# Altium integrated library lib_analog.IntLib: 24 symbols
Pins are listed as number, name and electrical type; pins without a type are passive.

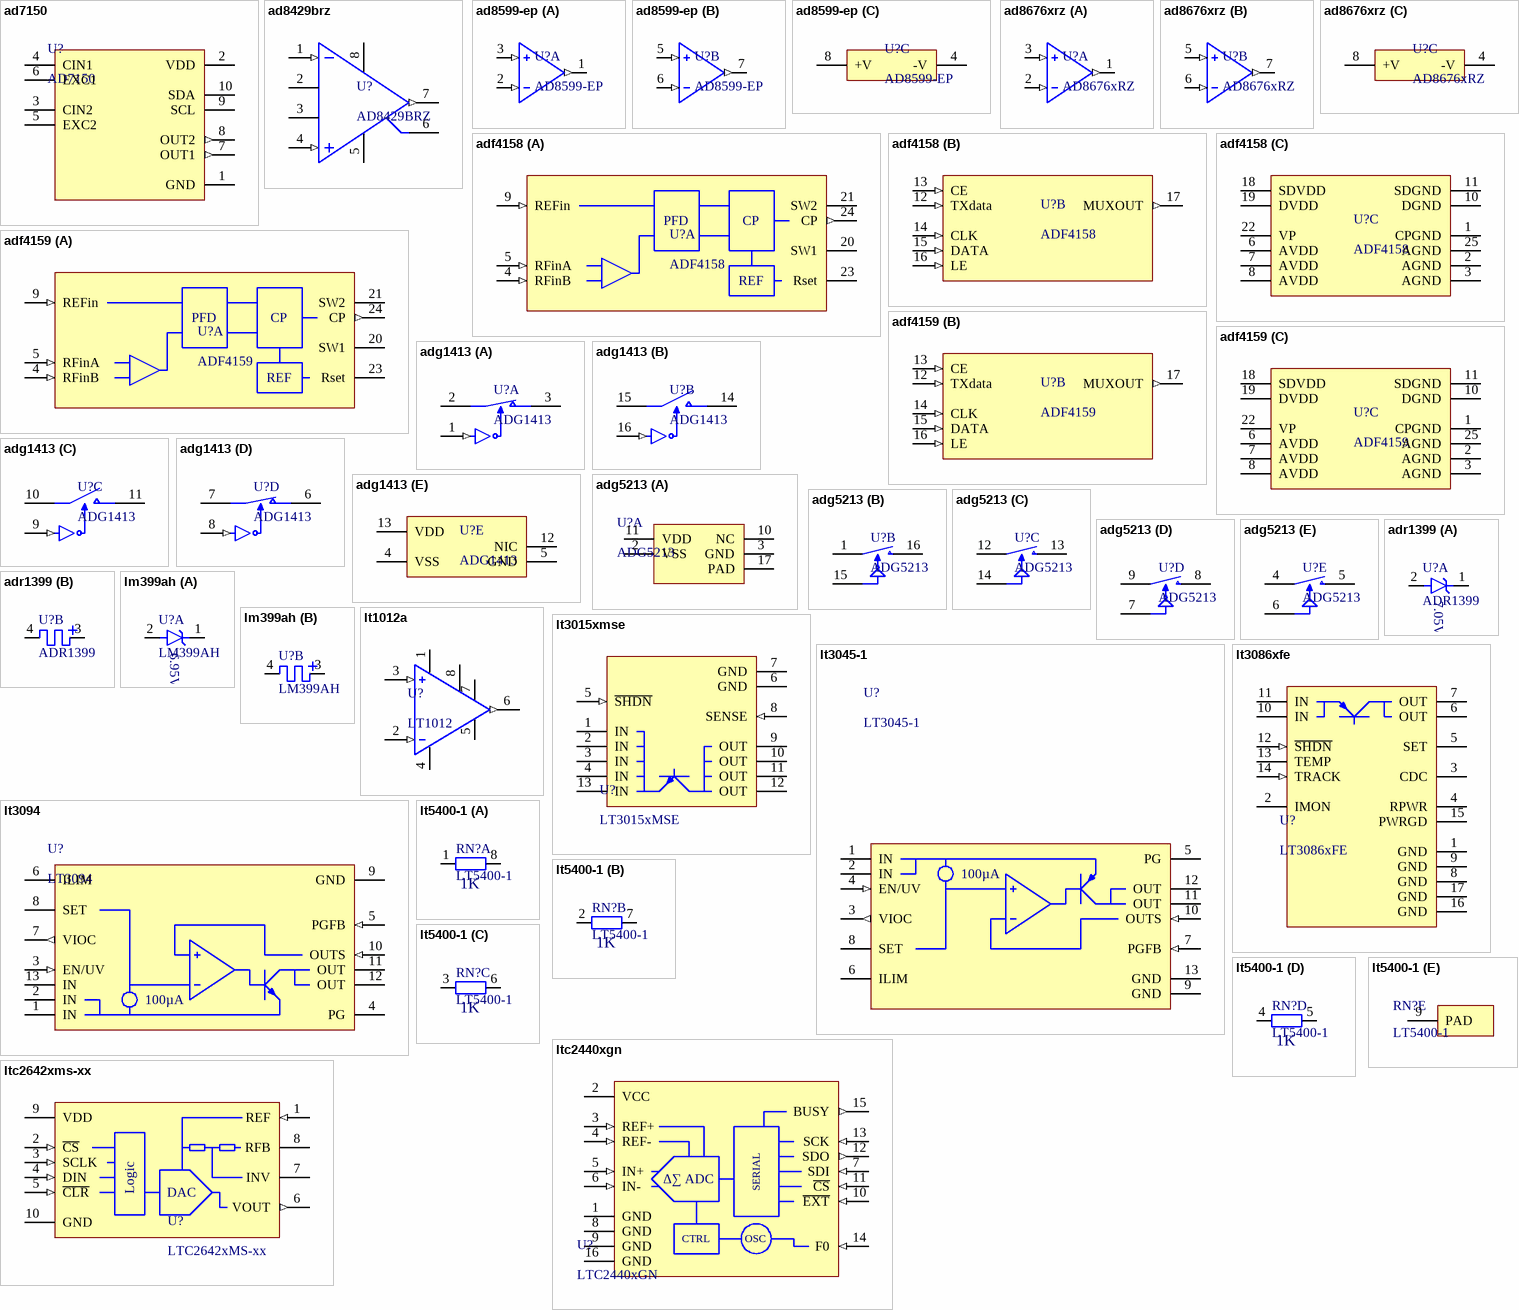
[diagram p0: symbols ad7150 to ltc2642xms-xx]

## ad7150
designator U?, comment AD7150
Ultra-Low Power, 2-Channel, Capacitance / Converter for Proximity Sensing; #digikey: *; #mouser: *
footprint TSSOP50P490X110-10N (TSSOP, 10-Leads, Body 3,00x3,00mm, Pitch 0,50mm, IPC Medium Density)
pins: 1 GND (power), 2 VDD (power), 3 CIN2, 4 CIN1, 5 EXC2, 6 EXC1, 7 OUT1 (out), 8 OUT2 (out), 9 SCL (oc), 10 SDA (oc)

## ad8429brz
designator U?, comment AD8429BRZ
1 nV/√Hz Low Noise / Instrumentation Amplifier; #digikey: *; #mouser: *
footprint SOIC127P600X175-8N (SOIC, 8-Leads, Body 4,90x3,90mm, Pitch 1,27mm, IPC Medium Density)
pins: 1 IN- (in), 2 Rg, 3 Rg, 4 IN+ (in), 5 V- (power), 6 REF, 7 OUT (out), 8 V+ (power)

## ad8599-ep
designator U?, comment AD8599-EP
Dual, Ultralow Distortion, Ultralow Noise Op Amp; ComponentLink1Description: Datasheet; ComponentLink1URL: https://www.mouser.se/datasheet/2/609/AD8599-EP-1517534.pdf
footprint SOIC127P600X175-8N_AD8599-EP (SOIC, 8-Leads, Body 4.90x3.90mm, Pitch 1.27mm, IPC Medium Density)
part A pins: 1 OUTA (out), 2 -INA (in), 3 +INA (in)
part B pins: 5 +INB (in), 6 -INB (in), 7 OUTB (out)
part C pins: 4 -V (power), 8 +V (power)

## ad8676xrz
designator U?, comment AD8676xRZ
Ultraprecision, 36 V, 2.8 nV/√Hz Dual Rail-to-Rail Output Op Amp; ComponentLink1Description: Datasheet; ComponentLink1URL: https://www.analog.com/media/en/technical-documentation/data-sheets/AD8676.pdf
footprint SOIC127P600X175-8N_AD8599-EP (SOIC, 8-Leads, Body 4.90x3.90mm, Pitch 1.27mm, IPC Medium Density)
part A pins: 1 OUTA (out), 2 -INA (in), 3 +INA (in)
part B pins: 5 +INB (in), 6 -INB (in), 7 OUTB (out)
part C pins: 4 -V (power), 8 +V (power)

## adf4158
designator U?, comment ADF4158
Direct Modulation/Waveform Generating, 6.1 GHz, Fractional-N Frequency Synthesizer; ComponentLink1Description: datasheet; ComponentLink1URL: https://www.analog.com/media/en/technical-documentation/data-sheets/ADF4158.pdf; ComponentLink2Description: user_guide; ComponentLink2URL: https://www.analog.com/media/en/technical-documentation/user-guides/UG-123.pdf
footprint QFN127P600-8N_ADF4159
part A pins: 4 RFinB (in), 5 RFinA (in), 9 REFin (in), 20 SW1, 21 SW2, 23 Rset, 24 CP (out)
part B pins: 12 TXdata (in), 13 CE (in), 14 CLK (in), 15 DATA (in), 16 LE (in), 17 MUXOUT (out)
part C pins: 1 CPGND (power), 2 AGND (power), 3 AGND (power), 6 AVDD (power), 7 AVDD (power), 8 AVDD (power), 10 DGND (power), 11 SDGND (power), 18 SDVDD (power), 19 DVDD (power), 22 VP (power), 25 AGND (power)
part A text: PFD; REF

## adf4159
designator U?, comment ADF4159
Direct Modulation/Fast Waveform Generating, 13 GHz, Fractional-N Frequency Synthesizer; ComponentLink1Description: datasheet; ComponentLink1URL: https://www.analog.com/media/en/technical-documentation/data-sheets/ADF4159.pdf; ComponentLink2Description: user_guide; ComponentLink2URL: https://www.analog.com/media/en/technical-documentation/user-guides/UG-476.pdf
footprint QFN127P600-8N_ADF4159
part A pins: 4 RFinB (in), 5 RFinA (in), 9 REFin (in), 20 SW1, 21 SW2, 23 Rset, 24 CP (out)
part B pins: 12 TXdata (in), 13 CE (in), 14 CLK (in), 15 DATA (in), 16 LE (in), 17 MUXOUT (out)
part C pins: 1 CPGND (power), 2 AGND (power), 3 AGND (power), 6 AVDD (power), 7 AVDD (power), 8 AVDD (power), 10 DGND (power), 11 SDGND (power), 18 SDVDD (power), 19 DVDD (power), 22 VP (power), 25 AGND (power)
part A text: PFD; REF

## adg1413
designator U?, comment ADG1413
1.5 Ω On Resistance, ±15 V/+12 V/±5 V, iCMOS, Quad SPST Switches; ComponentLink1Description: Datasheet; ComponentLink1URL: https://www.analog.com/media/en/technical-documentation/data-sheets/ADG1411_1412_1413.pdf
footprint TSOP65P640X120-16N_ADG141X (TSOP, 16-Leads, Body 5.00x4.40mm, Pitch 0.65mm, IPC Medium Density)
part A pins: 1 IN1 (in), 2 D1, 3 S1
part B pins: 14 S2, 15 D2, 16 IN2 (in)
part C pins: 9 IN3 (in), 10 D3, 11 S3
part D pins: 6 S4, 7 D4, 8 IN4 (in)
part E pins: 4 VSS (power), 5 GND (power), 12 NIC, 13 VDD (power)

## adg5213
designator U?, comment ADG5213
High Voltage Latch-Up Proof, / Quad SPST Switches; ComponentLink1Description: Datasheet; ComponentLink1URL: http://www.analog.com/media/en/technical-documentation/data-sheets/ADG5212_5213.pdf; #digikey: *; #mouser: *
footprint QFN65P400X400X80_HS-17N (QFN, 16-Leads, Body 4,00x4,00mm, Pitch 0,65mm, Thermal Pad 2,60x2,60mm, IPC Medium Density)
part A pins: 2 VSS (power), 3 GND (power), 10 NC, 11 VDD (power), 17 PAD (power)
part B pins: 1 S1, 15 IN1, 16 D1
part C pins: 12 S2, 13 D2, 14 IN2
part D pins: 7 IN3, 8 D3, 9 S3
part E pins: 4 S4, 5 D4, 6 IN4

## adr1399
designator U?, comment ADR1399
Oven-Compensated, Buried Zener, 7.05 V Voltage Reference; Vz: 7.05V; ComponentLink1Description: Datasheet; ComponentLink1URL: https://www.analog.com/media/en/technical-documentation/data-sheets/adr1399.pdf
footprint lm399_to46
part A pins: 1 C, 2 A
part B pins: 3 H+, 4 H-

## lm399ah
designator U?, comment LM399AH
Precision Reference; Vz: 6.95V; ComponentLink1Description: Datasheet; ComponentLink1URL: https://www.analog.com/media/en/technical-documentation/data-sheets/199399fc.pdf
footprint lm399_to46
part A pins: 1 C, 2 A
part B pins: 3 H+, 4 H-

## lt1012a
designator U?, comment LT1012
Picoamp Input Current, Microvolt Offset, Low Noise Op Amp; ComponentLink1Description: Datasheet; ComponentLink1URL: https://www.analog.com/media/en/technical-documentation/data-sheets/lt1012.pdf
footprint SOIC127P600X175-8N_LT1012 (SOIC, 8-Leads, Body 4.90x3.90mm, Pitch 1.27mm, IPC Medium Density)
pins: 1 TRIM, 2 -IN (in), 3 +IN (in), 4 V- (power), 5 COMP, 6 OUT (out), 7 V+ (power), 8 TRIM

## lt3015xmse
designator U?, comment LT3015xMSE
1.5A, Low Noise, / Negative Linear Regulator / with Precision Current Limit; ComponentLink1Description: Datasheet; ComponentLink1URL: https://www.analog.com/media/en/technical-documentation/data-sheets/3015fb.pdf
footprint TSOP65P490X110_HS-13N_LT3015 (TSOP, 12-Leads, Body 4.00x3.00mm, Pitch 0.65mm, Thermal Pad 2.95x1.75mm, IPC Medium Density)
pins: 1 IN (power), 2 IN (power), 3 IN (power), 4 IN (power), 5 ~{SHDN} (in), 6 GND, 7 GND (power), 8 SENSE (in), 9 OUT (power), 10 OUT (power), 11 OUT (power), 12 OUT (power), 13 IN (power)

## lt3045-1
designator U?, comment LT3045-1
20V, 500mA, Ultralow Noise, Ultrahigh PSRR Linear Regulator with VIOC Control; ComponentLink1Description: Datasheet; ComponentLink1URL: https://www.analog.com/media/en/technical-documentation/data-sheets/30451fa.pdf
footprint TSOP65P490X110_HS-13N_LT3045-1 (TSOP, 12-Leads, Body 4.04x3.00mm, Pitch 0.65mm, Thermal Pad 2.95x1.76mm, IPC Medium Density)
pins: 1 IN (power), 2 IN (power), 3 VIOC (out), 4 EN/UV (in), 5 PG (oc), 6 ILIM, 7 PGFB (in), 8 SET, 9 GND (power), 10 OUTS (in), 11 OUT (power), 12 OUT (power), 13 GND (power)
text: 100µA

## lt3086xfe
designator U?, comment LT3086xFE
40V, 2.1A Low Dropout / Adjustable Linear Regulator with Monitoring / and Cable Drop Compensation; ComponentLink1Description: Datasheet; ComponentLink1URL: https://www.analog.com/media/en/technical-documentation/data-sheets/3086fb.pdf
footprint TSOP65P640X110_HS-17N_LTC3086 (TSOP, 16-Leads, Body 5.00x4.40mm, Pitch 0.65mm, Thermal Pad 3.58x2.94mm, IPC Medium Density)
pins: 1 GND (power), 2 IMON, 3 CDC, 4 RPWR, 5 SET, 6 OUT (power), 7 OUT (power), 8 GND (power), 9 GND (power), 10 IN (power), 11 IN (power), 12 ~{SHDN} (in), 13 TEMP, 14 TRACK (in), 15 PWRGD (oc), 16 GND (power), 17 GND (power)

## lt3094
designator U?, comment LT3094
–20V, 500mA, Ultralow Noise, Ultrahigh PSRR Negative Linear Regulator
footprint TSOP65P490X110_HS-13N_LT3045-1 (TSOP, 12-Leads, Body 4.04x3.00mm, Pitch 0.65mm, Thermal Pad 2.95x1.76mm, IPC Medium Density)
pins: 1 IN (power), 2 IN (power), 3 EN/UV (in), 4 PG (oc), 5 PGFB (in), 6 ILIM, 7 VIOC (out), 8 SET, 9 GND (power), 10 OUTS (in), 11 OUT (power), 12 OUT (power), 13 IN (power)
text: 100µA

## lt5400-1
designator RN?, comment LT5400-1
Quad Matched Resistor Network; R1: 1K; R2: 1K; ComponentLink1Description: Datasheet; ComponentLink1URL: https://www.analog.com/media/en/technical-documentation/data-sheets/5400fc.pdf
footprint TSOP65P490X110_HS-9N_LT5400 (TSOP, 8-Leads, Body 3.00x3.00mm, Pitch 0.65mm, Thermal Pad 1.88x1.68mm, IPC Medium Density)
part A pins: 1, 8
part B pins: 2, 7
part C pins: 3, 6
part D pins: 4, 5
part E pins: 9 PAD

## ltc2440xgn
designator U?, comment LTC2440xGN
24-Bit High Speed Differential ∆∑ ADC with Selectable Speed/Resolution; ComponentLink1Description: Datasheet; ComponentLink1URL: https://www.analog.com/media/en/technical-documentation/data-sheets/2440fe.pdf
footprint SOP65P600X175-16N_LTC2440 (SOP, 16-Leads, Body 4.89x3.90mm, Pitch 0.65mm, IPC Medium Density)
pins: 1 GND (power), 2 VCC (power), 3 REF+ (in), 4 REF- (in), 5 IN+ (in), 6 IN- (in), 7 SDI (in), 8 GND (power), 9 GND (power), 10 ~{EXT} (in), 11 ~{CS} (in), 12 SDO (out), 13 SCK (in), 14 F0 (in), 15 BUSY (out), 16 GND (power)
text: SERIAL; ∆∑ ADC; CTRL; OSC

## ltc2642xms-xx
designator U?, comment LTC2642xMS-xx
16-/14-/12-Bit VOUT DACs
footprint TSSOP50P490X110-10N_LTC2642 (TSSOP, 10-Leads, Body 3.00x3.00mm, Pitch 0.50mm, IPC Medium Density)
pins: 1 REF (in), 2 ~{CS} (in), 3 SCLK (in), 4 DIN (in), 5 ~{CLR} (in), 6 VOUT (out), 7 INV, 8 RFB, 9 VDD (power), 10 GND (power)
text: Logic; DAC

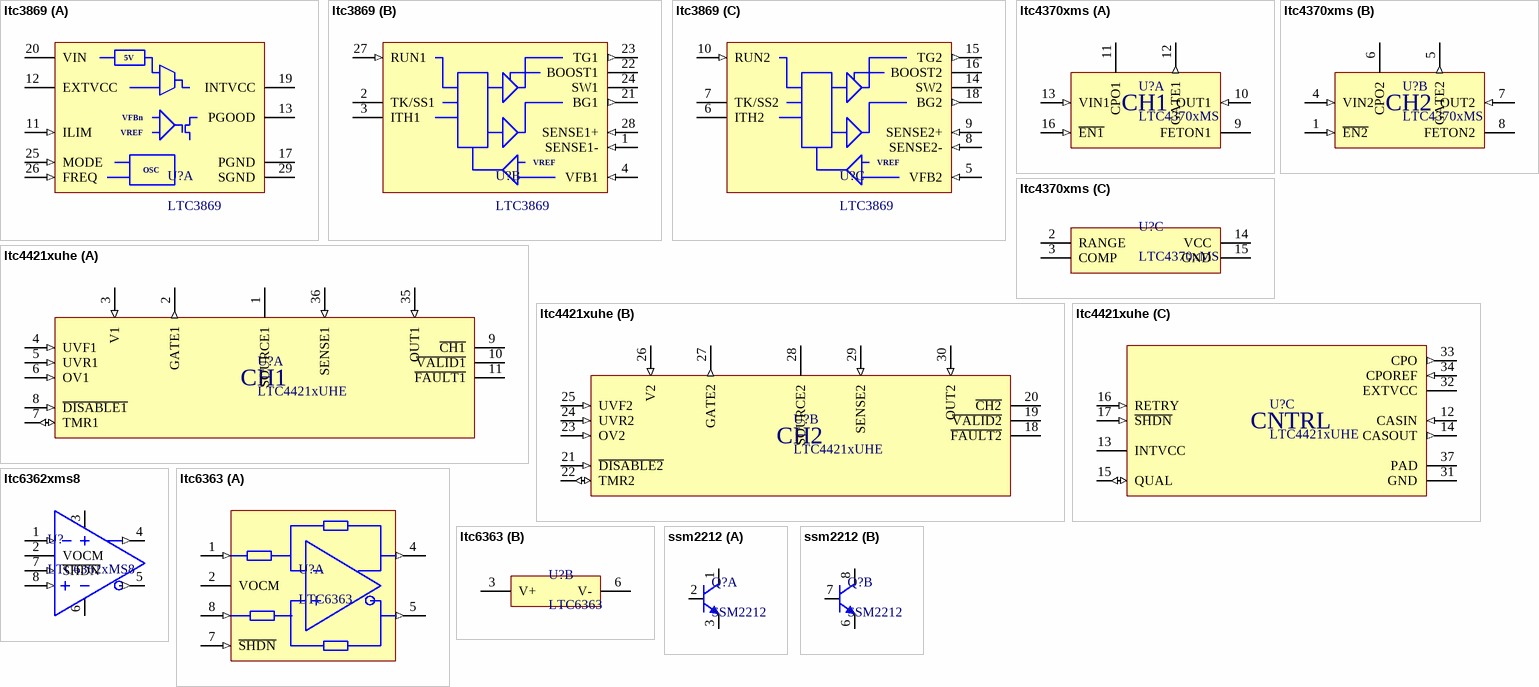
[diagram p1: symbols ltc3869 to ssm2212]

## ltc3869
designator U?, comment LTC3869
Dual, 2-Phase Synchronous Step-Down DC/DC Controllers; ComponentLink1Description: Datasheet; ComponentLink1URL: https://www.analog.com/media/en/technical-documentation/data-sheets/38692fb.pdf; Supplier 1: Digi-Key; Supplier Part Number 1: LTC3869EUFD#TRPBFCT-ND; Supplier 2: Digi-Key; Supplier Part Number 2: LTC3869EUFD#PBF-ND; Supplier 3: Mouser; Supplier Part Number 3: 584-LTC3869EUFD#PBF
footprint QFN50P400X500X80_HS-29N_LTC3869UFD (QFN, 28-Leads, Body 4.00x5.00mm, Pitch 0.50mm, Thermal Pad 2.65x3.65mm, IPC Medium Density)
part A pins: 11 ILIM (in), 12 EXTVCC (power), 13 PGOOD (oc), 17 PGND (power), 19 INTVCC (power), 20 VIN (power), 25 MODE (in), 26 FREQ (in), 29 SGND (power)
part B pins: 1 SENSE1- (in), 2 TK/SS1, 3 ITH1, 4 VFB1 (in), 21 BG1 (out), 22 BOOST1, 23 TG1 (out), 24 SW1, 27 RUN1 (in), 28 SENSE1+ (in)
part C pins: 5 VFB2 (in), 6 ITH2, 7 TK/SS2, 8 SENSE2- (in), 9 SENSE2+ (in), 10 RUN2 (in), 14 SW2, 15 TG2 (out), 16 BOOST2, 18 BG2 (out)
part A text: 5V; VFBn; VREF; OSC
part B text: VREF
part C text: VREF

## ltc4370xms
designator U?, comment LTC4370xMS
Two-Supply Diode-OR Current Balancing Controller; ComponentLink1Description: datasheet; ComponentLink1URL: https://www.analog.com/media/en/technical-documentation/data-sheets/4370f.pdf
footprint TSSOP50P510X110-16N_ltc4421 (TSSOP, 16-Leads, Body 4.04x3.00mm, Pitch 0.50mm, IPC Medium Density)
part A pins: 9 FETON1 (oc), 10 OUT1 (in), 11 CPO1, 12 GATE1 (out), 13 VIN1 (in), 16 ~{EN1} (in)
part B pins: 1 ~{EN2} (in), 4 VIN2 (in), 5 GATE2 (out), 6 CPO2, 7 OUT2 (in), 8 FETON2 (oc)
part C pins: 2 RANGE, 3 COMP, 14 VCC (power), 15 GND (power)
part A text: CH1
part B text: CH2

## ltc4421xuhe
designator U?, comment LTC4421xUHE
High Power Prioritized PowerPath Controller; ComponentLink1Description: datasheet; ComponentLink1URL: https://www.analog.com/media/en/technical-documentation/data-sheets/LTC4421.pdf
footprint QFN50P500X600X80_HS-37N_LTC4421 (QFN, 36-Leads, Body 5.00x6.00mm, Pitch 0.50mm, Thermal Pad 3.60x4.60mm, IPC Medium Density)
part A pins: 1 SOURCE1, 2 GATE1 (out), 3 V1 (in), 4 UVF1 (in), 5 UVR1 (in), 6 OV1 (in), 7 TMR1 (io), 8 ~{DISABLE1} (in), 9 ~{CH1} (oc), 10 ~{VALID1} (oc), 11 ~{FAULT1} (oc), 35 OUT1 (in), 36 SENSE1 (in)
part B pins: 18 ~{FAULT2} (oc), 19 ~{VALID2} (oc), 20 ~{CH2} (oc), 21 ~{DISABLE2} (in), 22 TMR2 (io), 23 OV2 (in), 24 UVR2 (in), 25 UVF2 (in), 26 V2 (in), 27 GATE2 (out), 28 SOURCE2, 29 SENSE2 (in), 30 OUT2 (in)
part C pins: 12 CASIN (in), 13 INTVCC (power), 14 CASOUT (out), 15 QUAL (io), 16 RETRY (in), 17 ~{SHDN} (in), 31 GND (power), 32 EXTVCC (power), 33 CPO (out), 34 CPOREF (in), 37 PAD (power)
part A text: CH1
part B text: CH2
part C text: CNTRL

## ltc6362xms8
designator U?, comment LTC6362xMS8
Precision, Low Power / Rail-to-Rail Input/Output Differential Op Amp/SAR ADC Driver; ComponentLink1Description: Datasheet; ComponentLink1URL: https://www.analog.com/media/en/technical-documentation/data-sheets/6362fa.pdf
footprint TSOP65P490X110-8N_LTC6362 (TSOP, 8-Leads, Body 3.00x3.00mm, Pitch 0.65mm, IPC Medium Density)
pins: 1 -IN (in), 2 VOCM, 3 V+ (power), 4 +OUT (out), 5 -OUT (out), 6 V- (power), 7 ~{SHDN} (in), 8 +IN (in)

## ltc6363
designator U?, comment LTC6363
Precision, Low Power Differential / Amplifier/ADC Driver Family; ComponentLink1Description: Datasheet; ComponentLink1URL: https://www.analog.com/media/en/technical-documentation/data-sheets/6362fa.pdf
footprint TSOP65P490X110-8N_LTC6362 (TSOP, 8-Leads, Body 3.00x3.00mm, Pitch 0.65mm, IPC Medium Density)
part A pins: 1 -IN (in), 2 VOCM, 4 +OUT (out), 5 -OUT (out), 7 ~{SHDN} (in), 8 +IN (in)
part B pins: 3 V+ (power), 6 V- (power)

## ssm2212
designator Q?, comment SSM2212
Audio, Dual-Matched NPN Transistor; ComponentLink1Description: Datasheet; ComponentLink1URL: https://www.analog.com/media/en/technical-documentation/data-sheets/SSM2212.pdf
footprint SOIC127P600X175-8N_SSM2212 (SOIC, 8-Leads, Body 4.90x3.90mm, Pitch 1.27mm, IPC Medium Density)
part A pins: 1 C1, 2 B1, 3 E1
part B pins: 6 E2, 7 B2, 8 C2